# EAGLE library part ADS131A04 (library My_TI)
ADS131A04 4-Channel, 24-Bit, Analog Front-Ends • Data Rates Up to 128 kSPS • Integrated Negative Charge Pump • Flexible Analog Power-Supply Operation: – Using Negative Charge Pump: 3.0 V to 3.45 V – Unipolar Supply: 3.3 V to 5.5 V – Bipolar Supply: ±2.5 V Datasheet <http://www.ti.com/lit/ds/symlink/ads131a04.pdf>
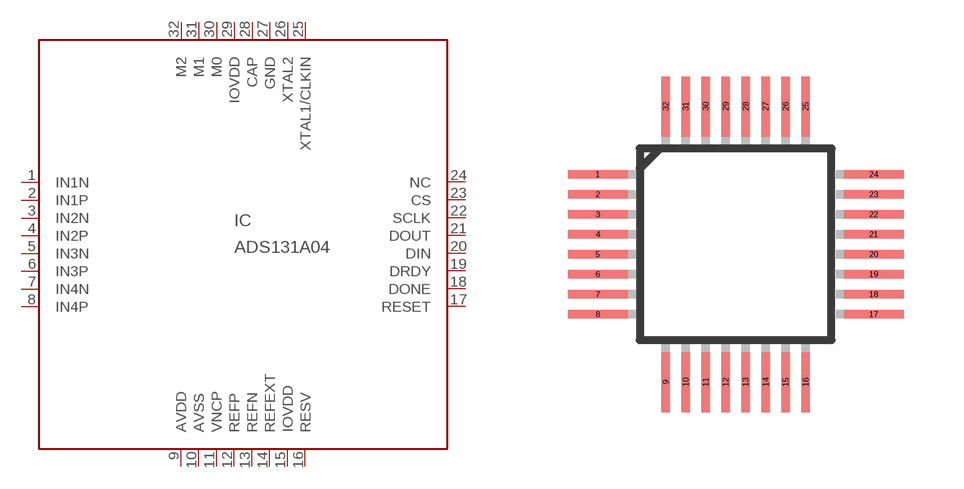
[diagram p45: symbol with the pads of PQFP-32; footprint PQFP-32]

Designator prefix IC

## ADS131A04  [PQFP-32]
1  IN1N  in
2  IN1P  in
3  IN2N  in
4  IN2P  in
5  IN3N  in
6  IN3P  in
7  IN4N  in
8  IN4P  in
9  AVDD  pwr
10  AVSS  pwr
11  VNCP  out
12  REFP  out
13  REFN  in
14  REFEXT  in
15  IOVDD  pwr
16  RESV  in
17  RESET  in
18  DONE  out
19  DRDY  out
20  DIN  in
21  DOUT  out
22  SCLK  in
23  CS  in
24  NC
25  XTAL1/CLKIN  in
26  XTAL2  out
27  GND  pwr
28  CAP  out
29  IOVDD  pwr
30  M0  in
31  M1  in
32  M2  in

## Footprint PQFP-32 (pad centres in mm)
PQFP-32 Auto generated by make-symbol-device-package-bsdl.ulp Rev. 44
smd 1.5 x 0.22: 1 -3.45,1.75; 2 -3.45,1.25; 3 -3.45,0.75; 4 -3.45,0.25; 5 -3.45,-0.25; 6 -3.45,-0.75; 7 -3.45,-1.25; 8 -3.45,-1.75; 17 3.45,-1.75; 18 3.45,-1.25; 19 3.45,-0.75; 20 3.45,-0.25; 21 3.45,0.25; 22 3.45,0.75; 23 3.45,1.25; 24 3.45,1.75
smd 0.22 x 1.5: 9 -1.75,-3.45; 10 -1.25,-3.45; 11 -0.75,-3.45; 12 -0.25,-3.45; 13 0.25,-3.45; 14 0.75,-3.45; 15 1.25,-3.45; 16 1.75,-3.45; 25 1.75,3.45; 26 1.25,3.45; 27 0.75,3.45; 28 0.25,3.45; 29 -0.25,3.45; 30 -0.75,3.45; 31 -1.25,3.45; 32 -1.75,3.45